# EAGLE library part M06 (library con-oupiin)
Oupiin 4071 Series: 6 Pin Male Standard 6-pin 0.1" header. -V: Standard vertical. Supplier: Altronics P5496 -V-LOCK: Vertical with slightly offset pin drills for easier hand soldering (SparkFun trick) Supplier: Altronics P5496 Source: http://www.oupiin.com.tw/pdf/4071-W.pdf
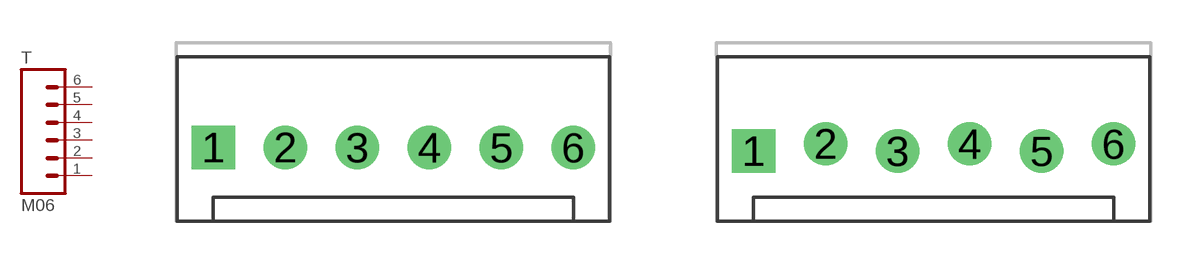
[diagram p0: symbol with the pads of OUPIIN-4071V-6; footprints OUPIIN-4071V-6, OUPIIN-4071V-6-LOCK]

Designator prefix T

## M06-V  [OUPIIN-4071V-6]
1  1  pas
2  2  pas
3  3  pas
4  4  pas
5  5  pas
6  6  pas

## M06-V-LOCK  [OUPIIN-4071V-6-LOCK]
Pads as for OUPIIN-4071V-6

## Footprint OUPIIN-4071V-6 (pad centres in mm)
drill 1.016 square: 1 0,0
drill 1.016 round: 2 2.54,0; 3 5.08,0; 4 7.62,0; 5 10.16,0; 6 12.7,0

## Footprint OUPIIN-4071V-6-LOCK (pad centres in mm)
drill 1.016 square: 1 0,-0.127
drill 1.016 round: 2 2.54,0.127; 3 5.08,-0.127; 4 7.62,0.127; 5 10.16,-0.127; 6 12.7,0.127